# EAGLE library part AD8362 (library ic)
AD8362: True-RMS power detector (Analog Devices) +5V, 50Hz-3.8GHz, -52..+8dBm input
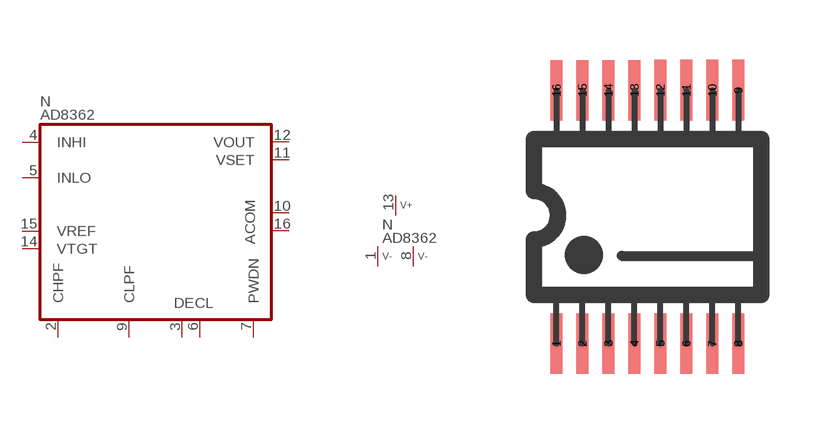
[diagram p131: symbol with the pads of TSSOP16; footprint TSSOP16]

Designator prefix N; gates A=AD8362 P=V+2GND

## AD8362  [TSSOP16]
1  P:V-1  pwr
2  A:CHPF  pas
3  A:DECL  pas
4  A:INHI  in
5  A:INLO  in
6  A:DECL  pas
7  A:PWDN  in
8  P:V-2  pwr
9  A:CLPF  pas
10  A:ACOM  pwr
11  A:VSET  in
12  A:VOUT  out
13  P:V+  pwr
14  A:VTGT  in
15  A:VREF  out
16  A:ACOM  pwr

## Footprint TSSOP16 (pad centres in mm)
TSSOP16, SMD TSSOP IC package (0.65mm pitch), 16 pins
smd 0.305 x 1.524: 1 -2.275,-3.169; 2 -1.625,-3.169; 3 -0.975,-3.169; 4 -0.325,-3.169; 5 0.325,-3.169; 6 0.975,-3.169; 7 1.625,-3.169; 8 2.275,-3.169; 9 2.275,3.169; 10 1.625,3.169; 11 0.975,3.169; 12 0.325,3.169; 13 -0.325,3.169; 14 -0.975,3.169; 15 -1.625,3.169; 16 -2.275,3.169